# Altium footprint library hhc_ad4_YZB.PcbLib: 55 footprints (part 2 of 4)
Each footprint in its own frame and in the unit in brackets; x right, y up, seen from the top. Pads: shape width x height; smd on the part's side, far side on the other; paste and mask are expansions set on the pad; w line width, h text height; cw(c..) or ccw(c..) is an arc to the next point about the centre after c.
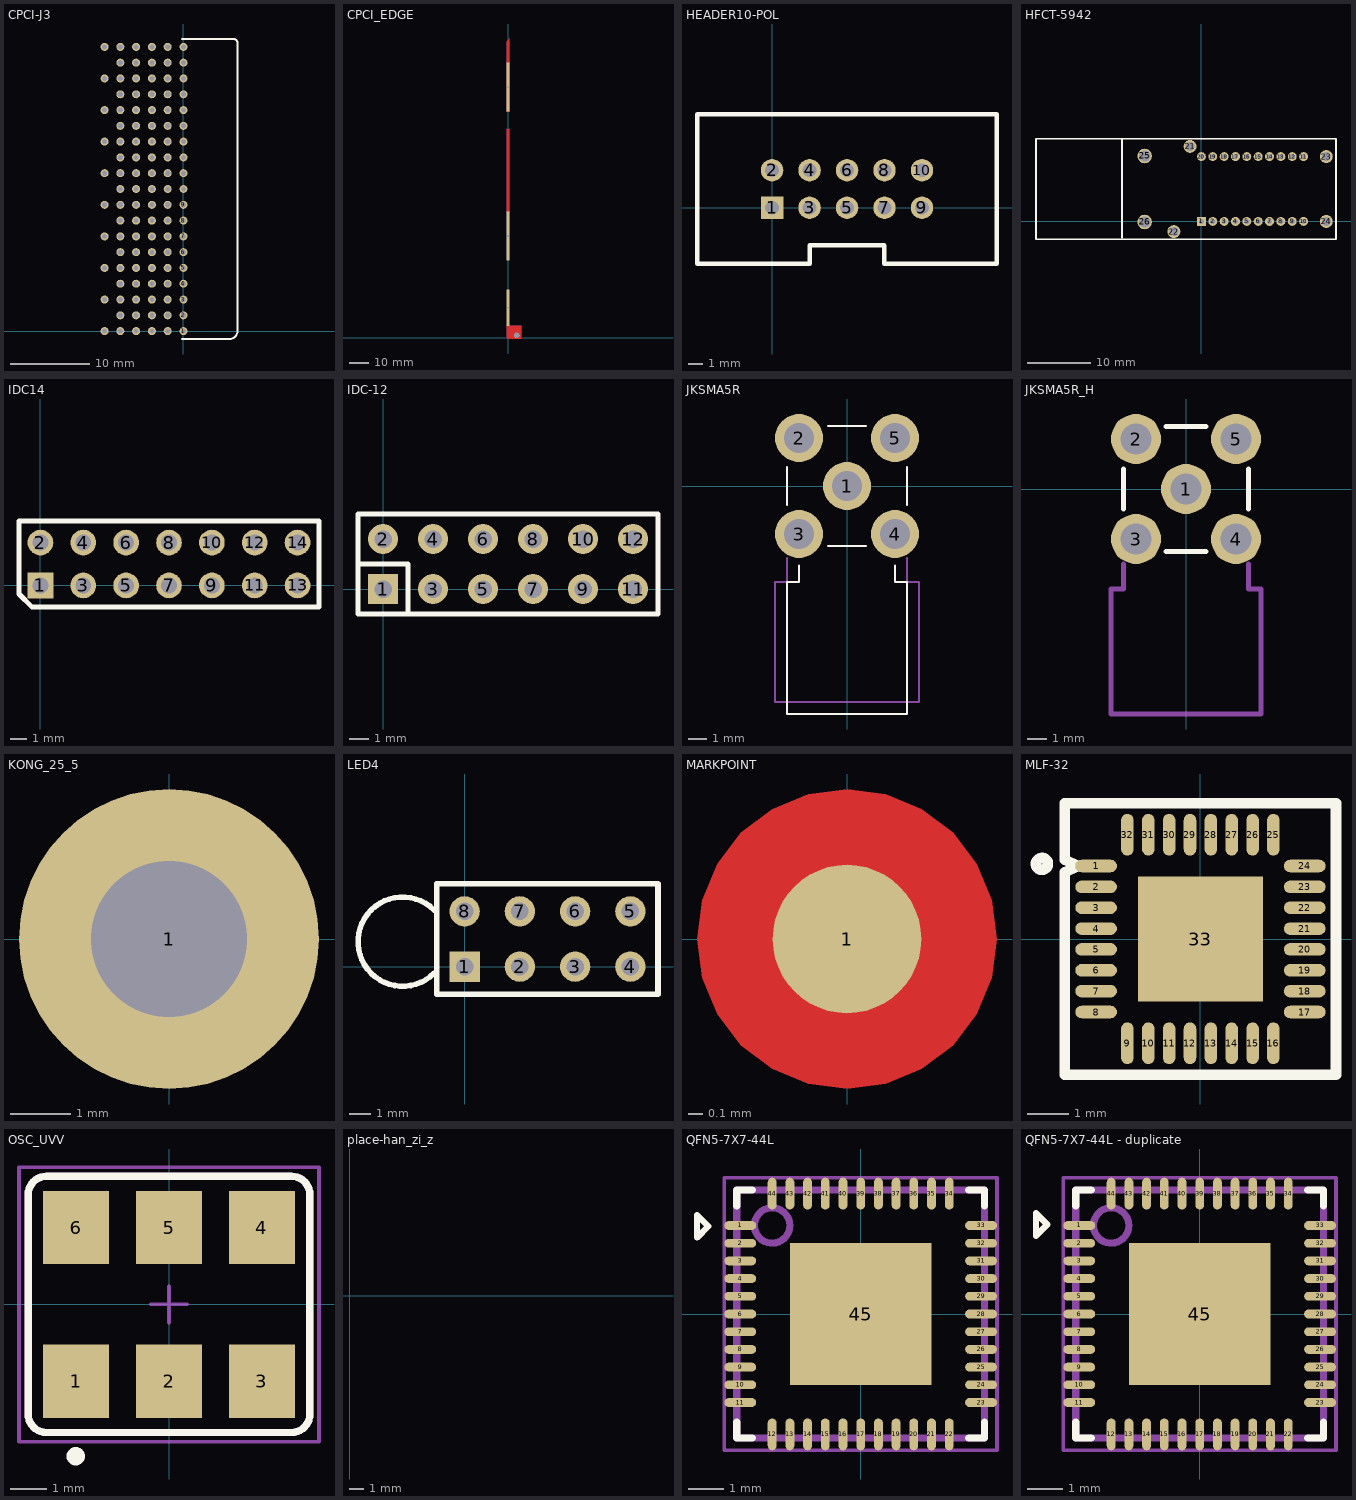
[diagram p1: the footprints below, top view; thin cyan lines are the x and y axes]

## CPCI-J3 [mil]
pads (105):
  round 40 / inner round 45 / far side round 40 hole 26: 1(0,0) 2(0,78.74) 3(0,157.48) 4(0,236.22) 5(0,314.96) 6(0,393.7) 7(0,472.44) 8(0,551.18) 9(0,629.92) 10(0,708.66) 11(0,787.4) 12(0,866.14) 13(0,944.88) 14(0,1023.62) 15(0,1102.36) 16(0,1181.1) 17(0,1259.84) 18(0,1338.58) 19(0,1417.32) 20(-78.74,0) 21(-78.74,78.74) 22(-78.74,157.48) 23(-78.74,236.22) 24(-78.74,314.96) 25(-78.74,393.7) 26(-78.74,472.44) 27(-78.74,551.18) 28(-78.74,629.92) 29(-78.74,708.66) 30(-78.74,787.4) 31(-78.74,866.14) 32(-78.74,944.88) 33(-78.74,1023.62) 34(-78.74,1102.36) 35(-78.74,1181.1) 36(-78.74,1259.84) 37(-78.74,1338.58) 38(-78.74,1417.32) 39(-157.48,0) 40(-157.48,78.74) 41(-157.48,157.48) 42(-157.48,236.22) 43(-157.48,314.96) 44(-157.48,393.7) 45(-157.48,472.44) 46(-157.48,551.18) 47(-157.48,629.92) 48(-157.48,708.66) 49(-157.48,787.4) 50(-157.48,866.14) 51(-157.48,944.88) 52(-157.48,1023.62) 53(-157.48,1102.36) 54(-157.48,1181.1) 55(-157.48,1259.84) 56(-157.48,1338.58) 57(-157.48,1417.32) 58(-236.22,0) 59(-236.22,78.74) 60(-236.22,157.48) 61(-236.22,236.22) 62(-236.22,314.96) 63(-236.22,393.7) 64(-236.22,472.44) 65(-236.22,551.18) 66(-236.22,629.92) 67(-236.22,708.66) 68(-236.22,787.4) 69(-236.22,866.14) 70(-236.22,944.88) 71(-236.22,1023.62) 72(-236.22,1102.36) 73(-236.22,1181.1) 74(-236.22,1259.84) 75(-236.22,1338.58) 76(-236.22,1417.32) 77(-314.96,0) 78(-314.96,78.74) 79(-314.96,157.48) 80(-314.96,236.22) 81(-314.96,314.96) 82(-314.96,393.7) 83(-314.96,472.44) 84(-314.96,551.18) 85(-314.96,629.92) 86(-314.96,708.66) 87(-314.96,787.4) 88(-314.96,866.14) 89(-314.96,944.88) 90(-314.96,1023.62) 91(-314.96,1102.36) 92(-314.96,1181.1) 93(-314.96,1259.84) 94(-314.96,1338.58) 95(-314.96,1417.32) 96(-393.7,0) 97(-393.7,157.48) 98(-393.7,314.96) 99(-393.7,472.44) 100(-393.7,629.92) 101(-393.7,787.4) 102(-393.7,944.88) 103(-393.7,1102.36) 104(-393.7,1259.84) 105(-393.7,1417.32)
Top Overlay:
  lines w10: -6.39,-39.37 229.83,-39.37 ccw(c229.83,0) 269.2,0 269.2,1437.01 ccw(c249.52,1437.01) 249.52,1456.69 -6.39,1456.69

## CPCI_EDGE [mil]
pads (4):
  rect 60x1000 / inner round 60 / far side rect 60x1000 hole 35: 1(-10,5100) 2(-10,2070)
  rect 60x740 / inner round 60 / far side rect 60x740 hole 35: 3(-10,610)
  round 100 hole 106: 4(170,50)
Top Layer:
  region: -40,250 -40,10 -5,-25 260,-25 260,240 20,240 20,250
  region: -40,2540 -40,4240 20,4240 20,2540
  region: -40,6020 20,6080 20,4600 -40,4600
  region: -40,5560 -40,6020 20,6020 20,5560
Bottom Layer:
  region: -40,261 -40,11 -5,-24 260,-24 260,241 20,241 20,261
  region: -40,1590 -40,4250 20,4250 20,1590
  region: -40,6020 20,6080 20,4600 -40,4600
  region: -40,6020 -40,4600 20,4600 20,6020

## HEADER10-POL [mil]
pads (10):
  rect 60x60 hole 37: 1(0,0)
  round 60 hole 37: 2(0,100) 3(100,0) 4(100,100) 5(200,0) 6(200,100) 7(300,0) 8(300,100) 9(400,0) 10(400,100)
Top Overlay:
  lines w12: -200,-150 -200,250 600,250 600,-150 300,-150 300,-100 100,-100 100,-150 -200,-150

## HFCT-5942 [mil]
pads (26):
  rect 55x55 / inner round 55 / far side rect 55x55 hole 32: 1(0,0)
  round 55 hole 32: 2(70,0) 3(140,0) 4(210,0) 5(280,0) 6(350,0) 7(420,0) 8(490,0) 9(560,0) 10(630,0) 11(630,400) 12(560,400) 13(490,400) 14(420,400) 15(350,400) 16(280,400) 17(210,400) 18(140,400) 19(70,400) 20(0,400)
  round 80 hole 55: 21(-70,462.5) 22(-170,-62.5) 23(770,400) 24(770,0)
  round 90 hole 70: 25(-350,403.5) 26(-350,-3.5)
Top Overlay:
  lines w10: -490,-100 -490,510 ; -1020,-110 830,-110 830,510 -1020,510 -1020,-110

## IDC14 [mil]
pads (14):
  rect 60x60 hole 37: 1(0,0)
  round 60 hole 37: 2(0,100) 3(100,0) 4(100,100) 5(200,0) 6(200,100) 7(300,0) 8(300,100) 9(400,0) 10(400,100) 11(500,0) 12(500,100) 13(600,0) 14(600,100)
Top Overlay:
  lines w12: -50,-20 -50,150 650,150 650,-50 -20,-50 -50,-20

## IDC-12 [mil]
pads (12):
  rect 60x60 / inner round 60 / far side rect 60x60 hole 35: 1(0,0)
  round 60 hole 35: 2(0,100) 3(100,0) 4(100,100) 5(200,0) 6(200,100) 7(300,0) 8(300,100) 9(400,0) 10(400,100) 11(500,0) 12(500,100)
Top Overlay:
  lines w10: -50,50 50,50 50,-50 ; -50,-50 550,-50 550,150 -50,150 -50,-50

## JKSMA5R [mil]
pads (5):
  round 100 hole 62: 1(0,0) 2(-100,100) 3(-100,-100) 4(100,-100) 5(100,100)
Top Overlay:
  lines w3.94: -125,-40 -125,40 ; -100,-165 -100,-200 -125,-200 -125,-475 125,-475 125,-200 100,-200 100,-165 ; -40,-125 40,-125 ; -40,125 40,125 ; 125,-40 125,40
Mechanical 1:
  lines w3.94: -125,-150 -125,-200 -150,-200 -150,-450 150,-450 150,-200 125,-200 125,-150

## JKSMA5R_H [mil]
pads (5):
  round 100 hole 62: 1(0,0) 2(-100,100) 3(-100,-100) 4(100,-100) 5(100,100)
Top Overlay:
  lines w10: -125,-40 -125,40 ; -40,-125 40,-125 ; -40,125 40,125 ; 125,-40 125,40
Mechanical 1:
  lines w10: -125,-150 -125,-200 -150,-200 -150,-450 150,-450 150,-200 125,-200 125,-150

## KONG_25_5 [mm]
pads (1):
  round 5 hole 2.6: 1(0,0)

## LED4 [mil]
pads (8):
  rect 55x55 / inner round 55 / far side rect 55x55 hole 32: 1(0,0)
  round 55 hole 32: 2(100,0) 3(200,0) 4(300,0) 5(300,100) 6(200,100) 7(100,100) 8(0,100)
Top Overlay:
  lines w10: -55.12,-11.81 cw(c-112.2,45.28) -55.12,102.36 ; -50,-50 350,-50 350,150 -50,150 -50,-50

## MARKPOINT [mm]
pads (1):
  round 1 smd mask+0.5: 1(0,0)
Top Layer:
  pour cut-out: 1.009,0 0.974,0.261 0.873,0.504 0.713,0.713 0.504,0.873 0.261,0.974 0,1.009 -0.261,0.974 -0.504,0.873 -0.713,0.713 -0.873,0.504 -0.974,0.261 -1.009,0 -0.974,-0.261 -0.873,-0.504 -0.713,-0.713 -0.504,-0.873 -0.261,-0.974 0,-1.009 0.261,-0.974 0.504,-0.873 0.713,-0.713 0.873,-0.504 0.974,-0.261
Mechanical 8:
  lines w0.1: -0.5,0 0.5,0 ; 0,-0.5 0,0.5

## MLF-32 [mm]
pads (33):
  oval 1x0.3 smd: 1(-2.5,1.75) 2(-2.5,1.25) 3(-2.5,0.75) 4(-2.5,0.25) 5(-2.5,-0.25) 6(-2.5,-0.75) 7(-2.5,-1.25) 8(-2.5,-1.75) 17(2.5,-1.75) 18(2.5,-1.25) 19(2.5,-0.75) 20(2.5,-0.25) 21(2.5,0.25) 22(2.5,0.75) 23(2.5,1.25) 24(2.5,1.75)
  oval 0.3x1 smd: 9(-1.75,-2.5) 10(-1.25,-2.5) 11(-0.75,-2.5) 12(-0.25,-2.5) 13(0.25,-2.5) 14(0.75,-2.5) 15(1.25,-2.5) 16(1.75,-2.5) 25(1.75,2.5) 26(1.25,2.5) 27(0.75,2.5) 28(0.25,2.5) 29(-0.25,2.5) 30(-0.75,2.5) 31(-1.25,2.5) 32(-1.75,2.5)
  rect 3x3 smd: 33(0,0)
Top Overlay:
  circle w0.254: c-3.8,1.8 r0.141
  lines w0.254: -3.25,-3.25 -3.25,1.6 -2.95,1.75 -3.25,1.9 -3.25,3.25 3.25,3.25 3.25,-3.25 -3.25,-3.25

## OSC_UVV [mm]
pads (6):
  rect 1.8x2 smd: 1(-2.54,-2.1) 2(0,-2.1) 3(2.54,-2.1) 4(2.54,2.1) 5(0,2.1) 6(-2.54,2.1)
Top Overlay:
  circle w0.25: c-2.55,-4.15 r0.125
  lines w0.2: -3.85,-3 ccw(c-3.35,-3) -3.35,-3.5 3.35,-3.5 ccw(c3.35,-3) 3.85,-3 3.85,3 ccw(c3.35,3) 3.35,3.5 -3.35,3.5 ccw(c-3.35,3) -3.85,3 -3.85,-3
Mechanical 1:
  lines w0.2: -3.85,-3 ccw(c-3.35,-3) -3.35,-3.5 3.35,-3.5 ccw(c3.35,-3) 3.85,-3 3.85,3 ccw(c3.35,3) 3.35,3.5 -3.35,3.5 ccw(c-3.35,3) -3.85,3 -3.85,-3
  text "U56" at -1.226,-0.5 h1
Mechanical 8:
  lines w0.1: -0.5,0 0.5,0 ; 0,-0.5 0,0.5 ; -4.1,-3.75 -4.1,3.75 4.1,3.75 4.1,-3.75 -4.1,-3.75

## place-han_zi_z [mm]
Drill Drawing:
  drawing of 919 lines, arcs and shapes, not listed

## QFN5-7X7-44L [mm]
pads (45):
  oval 0.9x0.25 smd paste-0.1 mask-0.1: 1(-3.4,2.5) 2(-3.4,2) 3(-3.4,1.5) 4(-3.4,1) 5(-3.4,0.5) 6(-3.4,0) 7(-3.4,-0.5) 8(-3.4,-1) 9(-3.4,-1.5) 10(-3.4,-2) 11(-3.4,-2.5) 23(3.4,-2.5) 24(3.4,-2) 25(3.4,-1.5) 26(3.4,-1) 27(3.4,-0.5) 28(3.4,0) 29(3.4,0.5) 30(3.4,1) 31(3.4,1.5) 32(3.4,2) 33(3.4,2.5)
  oval 0.25x0.9 smd paste-0.1 mask-0.1: 12(-2.5,-3.4) 13(-2,-3.4) 14(-1.5,-3.4) 15(-1,-3.4) 16(-0.5,-3.4) 17(0,-3.4) 18(0.5,-3.4) 19(1,-3.4) 20(1.5,-3.4) 21(2,-3.4) 22(2.5,-3.4) 34(2.5,3.4) 35(2,3.4) 36(1.5,3.4) 37(1,3.4) 38(0.5,3.4) 39(0,3.4) 40(-0.5,3.4) 41(-1,3.4) 42(-1.5,3.4) 43(-2,3.4) 44(-2.5,3.4)
  rect 4x4 smd: 45(0,0)
Top Overlay:
  lines w0.178: -4.623,2.159 -4.305,2.476 -4.623,2.794 -4.623,2.54 -4.623,2.159
  lines w0.2: -3.5,-3.05 -3.5,-3.5 -3.05,-3.5 ; -3.5,3.05 -3.5,3.5 -3.05,3.5 ; 3.05,-3.5 3.5,-3.5 3.5,-3.05 ; 3.05,3.5 3.5,3.5 3.5,3.05
Top Paste:
  region: 0.106,0.067 0.12,0.035 2.15,0.649 2.15,1.357
  region: 0.106,-0.068 0.12,-0.036 2.15,-0.649 2.15,-1.399
  region: 0.035,-0.12 0.068,-0.104 1.46,-2.15 0.613,-2.15
  region: -0.036,-0.12 -0.069,-0.104 -1.425,-2.15 -0.649,-2.15
  region: -0.106,-0.067 -0.12,-0.035 -2.15,-0.649 -2.15,-1.357
  region: -0.106,0.068 -0.12,0.036 -2.15,0.649 -2.15,1.399
  region: -0.035,0.12 -0.068,0.104 -1.411,2.15 -0.661,2.15
  region: 0.036,0.12 0.069,0.104 1.412,2.15 0.62,2.15
Mechanical 1:
  circle w0.2: c-2.5,2.5 r0.5
  lines w0.2: -3.5,-3.5 3.5,-3.5 3.5,3.5 -3.5,3.5 -3.5,-3.5
  text "U54" at -1.274,-0.5 h1
Mechanical 8:
  lines w0.1: -0.5,0 0.5,0 ; 0,-0.5 0,0.5 ; -3.85,-3.85 3.85,-3.85 3.85,3.85 -3.85,3.85 -3.85,-3.85

## QFN5-7X7-44L - duplicate [mm]
pads (45):
  oval 0.9x0.25 smd paste-0.1 mask-0.1: 1(-3.4,2.5) 2(-3.4,2) 3(-3.4,1.5) 4(-3.4,1) 5(-3.4,0.5) 6(-3.4,0) 7(-3.4,-0.5) 8(-3.4,-1) 9(-3.4,-1.5) 10(-3.4,-2) 11(-3.4,-2.5) 23(3.4,-2.5) 24(3.4,-2) 25(3.4,-1.5) 26(3.4,-1) 27(3.4,-0.5) 28(3.4,0) 29(3.4,0.5) 30(3.4,1) 31(3.4,1.5) 32(3.4,2) 33(3.4,2.5)
  oval 0.25x0.9 smd paste-0.1 mask-0.1: 12(-2.5,-3.4) 13(-2,-3.4) 14(-1.5,-3.4) 15(-1,-3.4) 16(-0.5,-3.4) 17(0,-3.4) 18(0.5,-3.4) 19(1,-3.4) 20(1.5,-3.4) 21(2,-3.4) 22(2.5,-3.4) 34(2.5,3.4) 35(2,3.4) 36(1.5,3.4) 37(1,3.4) 38(0.5,3.4) 39(0,3.4) 40(-0.5,3.4) 41(-1,3.4) 42(-1.5,3.4) 43(-2,3.4) 44(-2.5,3.4)
  rect 4x4 smd: 45(0,0)
Top Overlay:
  lines w0.178: -4.623,2.21 -4.623,2.591 -4.623,2.845 -4.305,2.527 -4.623,2.21
  lines w0.2: -3.5,-3.05 -3.5,-3.5 -3.05,-3.5 ; -3.5,3.05 -3.5,3.5 -3.05,3.5 ; 3.05,-3.5 3.5,-3.5 3.5,-3.05 ; 3.05,3.5 3.5,3.5 3.5,3.05
Top Paste:
  region: 0.036,0.12 0.069,0.104 1.412,2.15 0.62,2.15
  region: -0.035,0.12 -0.068,0.104 -1.411,2.15 -0.661,2.15
  region: -0.106,0.068 -0.12,0.036 -2.15,0.649 -2.15,1.399
  region: -0.106,-0.067 -0.12,-0.035 -2.15,-0.649 -2.15,-1.357
  region: -0.036,-0.12 -0.069,-0.104 -1.425,-2.15 -0.649,-2.15
  region: 0.035,-0.12 0.068,-0.104 1.46,-2.15 0.613,-2.15
  region: 0.106,-0.068 0.12,-0.036 2.15,-0.649 2.15,-1.399
  region: 0.106,0.067 0.12,0.035 2.15,0.649 2.15,1.357
Mechanical 1:
  circle w0.2: c-2.5,2.5 r0.5
  lines w0.2: -3.5,-3.5 -3.5,3.5 3.5,3.5 3.5,-3.5 -3.5,-3.5
  text "U54" at -1.274,-0.5 h1
Mechanical 8:
  lines w0.1: -0.5,0 0.5,0 ; 0,-0.5 0,0.5 ; -3.85,-3.85 -3.85,3.85 3.85,3.85 3.85,-3.85 -3.85,-3.85